# EAGLE library part 691701530006B (library Wurth_Elektronik_Electromechanic_Terminal_Blocks_Connectors_rev16b)
WR-TBL Serie 7015 – 5.08mm Open Horizontal PCB Header, 6 Pins=>Code : Con_TBL_Pluggable_5.08_PCB_THR_691701530006B <http://katalog.we-online.de/media/images/eican/Con_TBL_Pluggable_5.08_PCB_THR_6917015300xxB_pf2.jpg> Details see: http://katalog.we-online.de/en/em/691_701_530_0xxB Created 2014-06-25, Karrer Zheng 2014 (C) Würth Elektronik
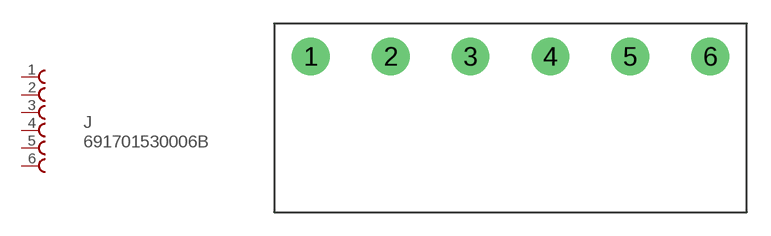
[diagram p341: symbol with the pads of 691701530006B; footprint 691701530006B]

Designator prefix J

## 691701530006B  [691701530006B]
1  1  pas
2  2  pas
3  3  pas
4  4  pas
5  5  pas
6  6  pas

## Footprint 691701530006B (pad centres in mm)
WR-TBL Serie 7015 – 5.08mm Open Horizontal PCB Header, 6 Pins
drill 1.6: 1 -12.7,0; 2 -7.62,0; 3 -2.54,0; 4 2.54,0; 5 7.62,0; 6 12.7,0